# Altium footprint library Connectors.PcbLib: 7 footprints
Each footprint in its own frame and in the unit in brackets; x right, y up, seen from the top. Pads: shape width x height; smd on the part's side, far side on the other; paste and mask are expansions set on the pad; w line width, h text height; cw(c..) or ccw(c..) is an arc to the next point about the centre after c.
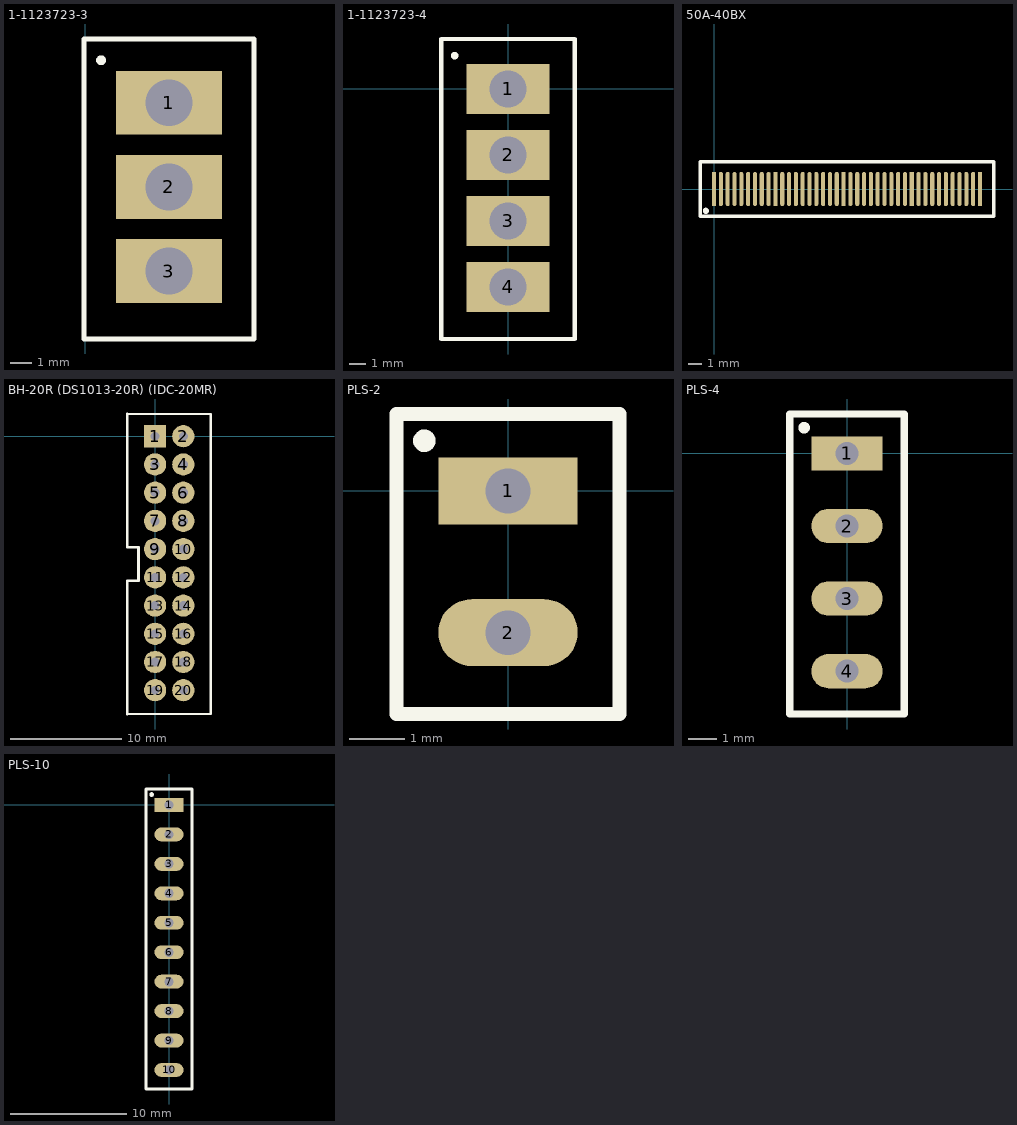
[diagram p0: the footprints below, top view; thin cyan lines are the x and y axes]

## 1-1123723-3 [mm]
pads (3):
  rect 5x3 hole 2.2: 1(3.947,-76.485) 2(3.947,-80.445) 3(3.947,-84.405)
Top Overlay:
  circle w0.254: c0.747,-74.485 r0.1
  lines w0.254: -0.053,-87.6 -0.053,-73.485 3.947,-73.485 7.947,-73.485 7.947,-87.6 6.832,-87.6 -0.053,-87.6

## 1-1123723-4 [mm]
pads (4):
  rect 5x3 hole 2.2: 1(0,0) 2(0,-3.96) 3(0,-7.92) 4(0,-11.88)
Top Overlay:
  circle w0.254: c-3.2,2 r0.1
  lines w0.254: -4,-15 -4,3 0,3 4,3 4,-15 0,-15 -4,-15

## 50A-40BX [mm] "X"
pads (40):
  rect 0.3x2.5 smd: 1(0,0) 10(4.5,0) 20(9.5,0) 30(14.5,0) 40(19.5,0)
  oval 0.3x2.5 smd: 2(0.5,0) 3(1,0) 4(1.5,0) 5(2,0) 6(2.5,0) 7(3,0) 8(3.5,0) 9(4,0) 11(5,0) 12(5.5,0) 13(6,0) 14(6.5,0) 15(7,0) 16(7.5,0) 17(8,0) 18(8.5,0) 19(9,0) 21(10,0) 22(10.5,0) 23(11,0) 24(11.5,0) 25(12,0) 26(12.5,0) 27(13,0) 28(13.5,0) 29(14,0) 31(15,0) 32(15.5,0) 33(16,0) 34(16.5,0) 35(17,0) 36(17.5,0) 37(18,0) 38(18.5,0) 39(19,0)
Top Overlay:
  circle w0.254: c-0.6,-1.6 r0.1
  lines w0.254: -1,-2 -1,2 20.5,2 20.5,-2 -1,-2

## BH-20R (DS1013-20R) (IDC-20MR) [mm] "X"
pads (20):
  rect 2x2 hole 0.8: 1(0,0)
  round 2 hole 0.8: 2(2.54,0) 3(0,-2.54) 4(2.54,-2.54) 5(0,-5.08) 6(2.54,-5.08) 7(0,-7.62) 8(2.54,-7.62) 9(0,-10.16) 10(2.54,-10.16) 11(0,-12.7) 12(2.54,-12.7) 13(0,-15.24) 14(2.54,-15.24) 15(0,-17.78) 16(2.54,-17.78) 17(0,-20.32) 18(2.54,-20.32) 19(0,-22.86) 20(2.54,-22.86)
Top Overlay:
  lines w0.2: -2.5,-25 5,-25 5,2 -2.5,2 ; -2,2 1.175,2
  lines w0.254: -2.5,-25 -2.5,-13 -1.5,-13 -1.5,-10 -2.5,-10 -2.5,2

## PLS-2 [mm] "X"
pads (2):
  rect 2.5x1.2 hole 0.8: 1(0,0)
  oval 2.5x1.2 hole 0.8: 2(0,-2.54)
Top Overlay:
  circle w0.254: c-1.5,0.9 r0.075
  lines w0.254: -2,-4 2,-4 2,1.38 -2,1.38 -2,-4

## PLS-4 [mm] "X"
pads (4):
  rect 2.5x1.2 hole 0.8: 1(0,0)
  oval 2.5x1.2 hole 0.8: 2(0,-2.54) 3(0,-5.08) 4(0,-7.62)
Top Overlay:
  circle w0.254: c-1.5,0.9 r0.075
  lines w0.254: -2,-9.12 -2,1.38 2,1.38 2,-9.12 -2,-9.12

## PLS-10 [mm] "X"
pads (10):
  rect 2.5x1.2 hole 0.8: 1(0,0)
  oval 2.5x1.2 hole 0.8: 2(0,-2.54) 3(0,-5.08) 4(0,-7.62) 5(0,-10.16) 6(0,-12.7) 7(0,-15.24) 8(0,-17.78) 9(0,-20.32) 10(0,-22.86)
Top Overlay:
  circle w0.254: c-1.5,0.9 r0.075
  lines w0.254: -2,-24.5 2,-24.5 2,1.38 -2,1.38 -2,-24.5